# Altium schematic symbol library IND,1.2mH,300mA,Radial,Thru.Schlib: 1 symbol
Pins are listed as number, name and electrical type; pins without a type are passive.

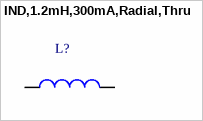
[diagram p0: symbol IND,1.2mH,300mA,Radial,Thru]

## IND,1.2mH,300mA,Radial,Thru
designator L?
pins: 1, 2